# Altium footprint library 开关.PcbLib: 16 footprints
Each footprint in its own frame and in the unit in brackets; x right, y up, seen from the top. Pads: shape width x height; smd on the part's side, far side on the other; paste and mask are expansions set on the pad; w line width, h text height; cw(c..) or ccw(c..) is an arc to the next point about the centre after c.
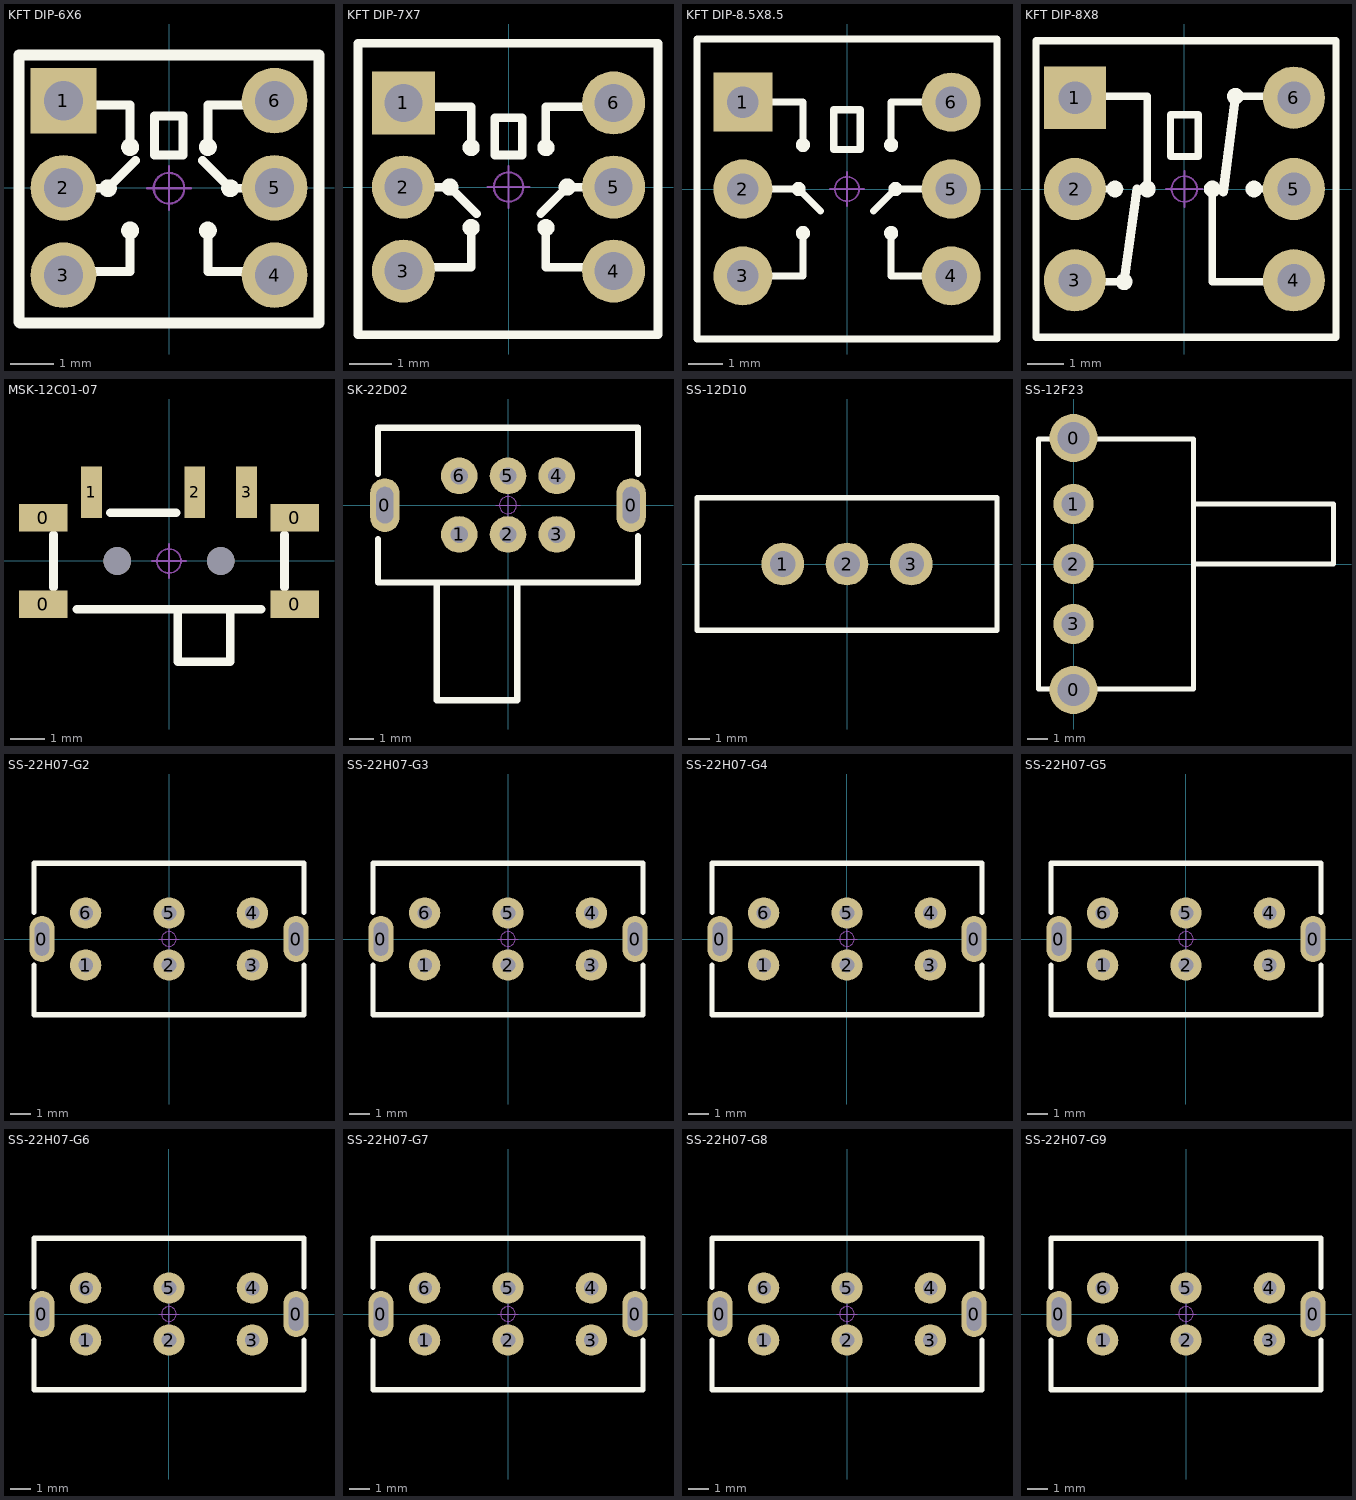
[diagram p0: the footprints below, top view; thin cyan lines are the x and y axes]

## KFT DIP-6X6 [mm] "6*6mm开关"
pads (6):
  rect 1.5x1.5 hole 0.9: 1(-2.413,1.994)
  round 1.5 hole 0.9: 2(-2.413,0) 3(-2.413,-1.994) 4(2.413,-1.994) 5(2.413,0) 6(2.413,1.994)
Top Overlay:
  circle w0.254: c-1.397,-0.007 r0.076
  circle w0.254: c1.397,-0.007 r0.076
  circle w0.254: c-0.889,-0.973 r0.076
  circle w0.254: c0.889,-0.973 r0.076
  circle w0.254: c-0.889,0.932 r0.076
  circle w0.254: c0.889,0.932 r0.076
  lines w0.203: -2.54,-1.912 -1.524,-1.912 -0.889,-1.912 -0.889,-0.896 ; -2.54,-0.007 -1.397,-0.007 -0.762,0.628 ; -2.54,1.898 -0.889,1.898 -0.889,1.009 ; 0.762,0.628 1.397,-0.007 2.54,-0.007 ; 0.889,-0.896 0.889,-1.912 2.54,-1.912 ; 0.889,1.009 0.889,1.898 2.54,1.898 ; -0.33,0.755 -0.33,1.644 0.322,1.644 0.322,0.755 -0.33,0.755
  lines w0.254: -3.429,-3.061 -3.429,3.035 3.429,3.035 3.429,-3.086 -3.404,-3.086 -3.429,-3.061
Mechanical 15:
  circle w0.05: c0,-0.007 r0.35
  lines w0.05: -0.5,-0.007 0.5,-0.007 ; 0,-0.507 0,0.493
3D body "6开关.stp": height 10.29, standoff -3.51, extent -3,-3.007 3,2.993

## KFT DIP-7X7 [mm] "7*7mm开关"
pads (6):
  rect 1.5x1.5 hole 0.9: 1(-2.5,2)
  round 1.5 hole 0.9: 2(-2.5,0) 3(-2.5,-2) 4(2.5,-2) 5(2.5,0) 6(2.5,2)
Top Overlay:
  circle w0.254: c-1.397,0 r0.076
  circle w0.254: c1.397,0 r0.076
  circle w0.254: c-0.889,-0.965 r0.076
  circle w0.254: c0.889,-0.965 r0.076
  circle w0.254: c-0.889,0.94 r0.076
  circle w0.254: c0.889,0.94 r0.076
  lines w0.203: -2.54,-1.905 -1.524,-1.905 -0.889,-1.905 -0.889,-0.889 ; -2.54,0 -1.397,0 -0.762,-0.635 ; -2.54,1.905 -0.889,1.905 -0.889,1.016 ; 0.762,-0.635 1.397,0 2.54,0 ; 0.889,-0.889 0.889,-1.905 2.54,-1.905 ; 0.889,1.016 0.889,1.905 2.54,1.905 ; -3.581,-3.514 2.54,-3.514 3.556,-3.514 3.556,3.42 -3.581,3.42 -3.581,-3.514 ; -0.33,0.762 -0.33,1.651 0.321,1.651 0.321,0.762 -0.33,0.762
Mechanical 15:
  circle w0.05: c0,0 r0.35
  lines w0.05: -0.5,0 0.5,0 ; 0,-0.5 0,0.5
3D body "SLSW 7x7.STEP": height 11.2, standoff -3.2, extent -3.5,-3.5 3.5,3.5

## KFT DIP-8.5X8.5 [mm] "8.5*8.5mm开关"
pads (6):
  rect 1.7x1.7 hole 0.9: 1(-3,2.5)
  round 1.7 hole 0.9: 2(-3,0) 3(-3,-2.5) 4(3,-2.5) 5(3,0) 6(3,2.5)
Top Overlay:
  circle w0.254: c1.27,1.27 r0.076
  circle w0.254: c-1.27,1.27 r0.076
  circle w0.254: c1.27,-1.27 r0.076
  circle w0.254: c-1.27,-1.27 r0.076
  circle w0.254: c1.397,0 r0.076
  circle w0.254: c-1.397,0 r0.076
  lines w0.2: -4.318,-4.318 -4.318,4.318 4.318,4.318 4.318,-4.318 -4.318,-4.318
  lines w0.203: -3,-2.5 -1.27,-2.5 -1.27,-1.27 ; -3,0 -1.397,0 -0.762,-0.635 ; -3,2.5 -1.27,2.5 -1.27,1.27 ; 0.762,-0.635 1.397,0 3,0 ; 1.27,-1.27 1.27,-2.5 3,-2.5 ; 1.27,1.27 1.27,2.5 3,2.5 ; -0.381,1.139 0.381,1.139 0.381,2.282 -0.381,2.282 -0.381,1.139
Mechanical 15:
  circle w0.05: c0,0 r0.35
  lines w0.05: -0.5,0 0.5,0 ; 0,-0.5 0,0.5
3D body "8.5开关.stp": height 13.8, standoff -3, extent -4.25,-4.25 4.25,4.25

## KFT DIP-8X8 [mm] "8*8mm开关"
pads (6):
  rect 1.7x1.7 hole 0.9: 1(-3,2.5)
  round 1.7 hole 0.9: 2(-3,0) 3(-3,-2.5) 4(3,-2.5) 5(3,0) 6(3,2.5)
Top Overlay:
  circle w0.254: c-1.016,0 r0.102
  circle w0.254: c0.762,0 r0.102
  circle w0.254: c-1.651,-2.54 r0.102
  circle w0.254: c-1.905,0 r0.102
  circle w0.254: c1.905,0 r0.102
  circle w0.254: c1.397,2.54 r0.102
  lines w0.2: -4.064,-4.064 4.153,-4.064 4.153,4.064 -4.064,4.064 -4.064,-4.064
  lines w0.203: -3.048,-2.54 -1.651,-2.54 ; -3.048,0 -1.771,0 ; -3.048,2.54 -1.016,2.54 -1.016,0 ; 0.762,0 0.762,-2.54 2.794,-2.54 ; 1.397,2.54 3.048,2.54 ; 1.88,0 2.794,0 ; -0.381,0.889 0.381,0.889 0.381,2.032 -0.381,2.032 -0.381,0.889
  lines w0.254: -1.651,-2.54 -1.295,0 ; 1.067,-0.076 1.397,2.54
Mechanical 15:
  circle w0.05: c0,0 r0.35
  lines w0.05: -0.5,0 0.5,0 ; 0,-0.5 0,0.5
3D body "SLSW 8x8.STEP": height 13.1, standoff -3.2, extent -3.949,-4.051 4.051,3.949

## MSK-12C01-07 [mm] "6.7*2.8*1.5mm(长宽高）"
pads (9):
  rect 1.4x0.8 smd: 0(-3.65,-1.25) 0(-3.65,1.25) 0(3.65,-1.25) 0(3.65,1.25)
  rect 0.6x1.5 smd: 1(-2.25,1.996) 2(0.75,1.996) 3(2.25,1.996)
  round 0.8 hole 0.8: " "(-1.5,0) " "(1.5,0)
Top Overlay:
  lines w0.254: -3.35,-0.762 -3.35,0.762 ; -2.667,-1.397 2.667,-1.397 ; -1.699,1.397 0.206,1.397 ; 0.254,-1.4 0.254,-2.921 1.778,-2.921 1.778,-1.4 ; 3.35,-0.762 3.35,0.762
Mechanical 15:
  circle w0.05: c0,0 r0.35
  lines w0.05: -0.5,0 0.5,0 ; 0,-0.5 0,0.5
3D body "MSK-12C01-07.STEP": height 1.5, standoff -0.5, extent -3.92,-2.9 3.92,2.4

## SK-22D02 [mm] "10.4x6.1x4.2mm(长宽高)，脚距：2mm"
pads (8):
  oval 1.2x2.2 hole 0.7 slot 1.5 at 90 deg: 0(-5.05,0) 0(5.05,0)
  round 1.5 hole 0.7: 1(-2,-1.2) 2(0,-1.2) 3(2,-1.2) 4(2,1.2) 5(0,1.2) 6(-2,1.2)
Top Overlay:
  lines w0.25: -5.334,-1.397 -5.334,-3.175 5.334,-3.175 5.334,-1.27 ; -5.334,1.27 -5.334,3.175 5.334,3.175 5.334,1.27 ; -2.921,-3.175 -2.921,-8.001 0.381,-8.001 0.381,-3.175
Mechanical 15:
  circle w0.05: c0,0 r0.35
  lines w0.05: -0.5,0 0.5,0 ; 0,-0.5 0,0.5
3D body "SK-22D02.STEP": height 5.59, standoff -2.61, extent -5.266,-7.963 5.254,3.047

## SS-12D10 [mm] "脚距3mm"
pads (3):
  round 2 hole 1.2: 1(-3,0) 2(0,0) 3(3,0)
Top Overlay:
  lines w0.254: -7,-3.1 7,-3.1 7,3.1 -7,3.1 -7,-3.1
3D body "SW-SLB12814.STEP": height 9.65, standoff -2.6, extent -7,-3.1 7,3.1

## SS-12F23 [mm] "脚距3mm"
pads (5):
  round 2.4 hole 1.6: 0(0,-6.3) 0(0,6.3)
  round 2 hole 1.2: 1(0,3) 2(0,0) 3(0,-3)
Top Overlay:
  lines w0.254: 6,0 13,0 13,3 6,3 ; -1.75,-6.25 0,-6.25 6,-6.25 6,6.25 0,6.25 -1.5,6.25 -1.75,6.25 -1.75,-6.25
3D body "User Library-SLIDE SWITCH SS12F23.STEP": height 5.75, standoff -3.35, extent -0.608,-6.523 12.292,6.477

## SS-22H07-G2 [mm] "柄长2mm，12.7x7x4.7mm(长宽高)，脚距：4mm"
pads (8):
  oval 1.2x2.2 hole 0.7 slot 1.6 at 90 deg: 0(-6.1,0) 0(6.1,0)
  round 1.5 hole 0.7: 1(-4,-1.25) 2(0,-1.25) 3(4,-1.25) 4(4,1.25) 5(0,1.25) 6(-4,1.25)
Top Overlay:
  lines w0.25: -6.477,-1.25 -6.477,-3.632 6.477,-3.632 6.477,-1.25 ; -6.477,1.27 -6.477,3.632 6.477,3.632 6.477,1.27
Mechanical 15:
  circle w0.05: c0,0 r0.35
  lines w0.05: -0.5,0 0.5,0 ; 0,-0.5 0,0.5
3D body "SS-22H07-G2.STEP": height 6.7, standoff -3.3, extent -6.351,-3.501 6.351,3.501

## SS-22H07-G3 [mm] "柄长3mm，12.7x7x4.7mm(长宽高)，脚距：4mm"
pads (8):
  oval 1.2x2.2 hole 0.7 slot 1.6 at 90 deg: 0(-6.1,0) 0(6.1,0)
  round 1.5 hole 0.7: 1(-4,-1.25) 2(0,-1.25) 3(4,-1.25) 4(4,1.25) 5(0,1.25) 6(-4,1.25)
Top Overlay:
  lines w0.25: -6.477,-1.25 -6.477,-3.632 6.477,-3.632 6.477,-1.25 ; -6.477,1.27 -6.477,3.632 6.477,3.632 6.477,1.27
Mechanical 15:
  circle w0.05: c0,0 r0.35
  lines w0.05: -0.5,0 0.5,0 ; 0,-0.5 0,0.5
3D body "SS-22H07-G3.STEP": height 7.7, standoff -3.3, extent -6.351,-3.501 6.351,3.501

## SS-22H07-G4 [mm] "柄长4mm，12.7x7x4.7mm(长宽高)，脚距：4mm"
pads (8):
  oval 1.2x2.2 hole 0.7 slot 1.6 at 90 deg: 0(-6.1,0) 0(6.1,0)
  round 1.5 hole 0.7: 1(-4,-1.25) 2(0,-1.25) 3(4,-1.25) 4(4,1.25) 5(0,1.25) 6(-4,1.25)
Top Overlay:
  lines w0.25: -6.477,-1.25 -6.477,-3.632 6.477,-3.632 6.477,-1.25 ; -6.477,1.27 -6.477,3.632 6.477,3.632 6.477,1.27
Mechanical 15:
  circle w0.05: c0,0 r0.35
  lines w0.05: -0.5,0 0.5,0 ; 0,-0.5 0,0.5
3D body "SS-22H07-G4.STEP": height 8.7, standoff -3.3, extent -6.351,-3.501 6.351,3.501

## SS-22H07-G5 [mm] "柄长5mm，12.7x7x4.7mm(长宽高)，脚距：4mm"
pads (8):
  oval 1.2x2.2 hole 0.7 slot 1.6 at 90 deg: 0(-6.1,0) 0(6.1,0)
  round 1.5 hole 0.7: 1(-4,-1.25) 2(0,-1.25) 3(4,-1.25) 4(4,1.25) 5(0,1.25) 6(-4,1.25)
Top Overlay:
  lines w0.25: -6.477,-1.25 -6.477,-3.632 6.477,-3.632 6.477,-1.25 ; -6.477,1.27 -6.477,3.632 6.477,3.632 6.477,1.27
Mechanical 15:
  circle w0.05: c0,0 r0.35
  lines w0.05: -0.5,0 0.5,0 ; 0,-0.5 0,0.5
3D body "SS-22H07-G5.STEP": height 9.7, standoff -3.3, extent -6.351,-3.501 6.351,3.501

## SS-22H07-G6 [mm] "柄长6mm，12.7x7x4.7mm(长宽高)，脚距：4mm"
pads (8):
  oval 1.2x2.2 hole 0.7 slot 1.6 at 90 deg: 0(-6.1,0) 0(6.1,0)
  round 1.5 hole 0.7: 1(-4,-1.25) 2(0,-1.25) 3(4,-1.25) 4(4,1.25) 5(0,1.25) 6(-4,1.25)
Top Overlay:
  lines w0.25: -6.477,-1.25 -6.477,-3.632 6.477,-3.632 6.477,-1.25 ; -6.477,1.27 -6.477,3.632 6.477,3.632 6.477,1.27
Mechanical 15:
  circle w0.05: c0,0 r0.35
  lines w0.05: -0.5,0 0.5,0 ; 0,-0.5 0,0.5
3D body "SS-22H07-G6.STEP": height 10.7, standoff -3.3, extent -6.351,-3.501 6.351,3.501

## SS-22H07-G7 [mm] "柄长7mm，12.7x7x4.7mm(长宽高)，脚距：4mm"
pads (8):
  oval 1.2x2.2 hole 0.7 slot 1.6 at 90 deg: 0(-6.1,0) 0(6.1,0)
  round 1.5 hole 0.7: 1(-4,-1.25) 2(0,-1.25) 3(4,-1.25) 4(4,1.25) 5(0,1.25) 6(-4,1.25)
Top Overlay:
  lines w0.25: -6.477,-1.25 -6.477,-3.632 6.477,-3.632 6.477,-1.25 ; -6.477,1.27 -6.477,3.632 6.477,3.632 6.477,1.27
Mechanical 15:
  circle w0.05: c0,0 r0.35
  lines w0.05: -0.5,0 0.5,0 ; 0,-0.5 0,0.5
3D body "SS-22H07-G7.STEP": height 11.7, standoff -3.3, extent -6.351,-3.501 6.351,3.501

## SS-22H07-G8 [mm] "柄长8mm，12.7x7x4.7mm(长宽高)，脚距：4mm"
pads (8):
  oval 1.2x2.2 hole 0.7 slot 1.6 at 90 deg: 0(-6.1,0) 0(6.1,0)
  round 1.5 hole 0.7: 1(-4,-1.25) 2(0,-1.25) 3(4,-1.25) 4(4,1.25) 5(0,1.25) 6(-4,1.25)
Top Overlay:
  lines w0.25: -6.477,-1.25 -6.477,-3.632 6.477,-3.632 6.477,-1.25 ; -6.477,1.27 -6.477,3.632 6.477,3.632 6.477,1.27
Mechanical 15:
  circle w0.05: c0,0 r0.35
  lines w0.05: -0.5,0 0.5,0 ; 0,-0.5 0,0.5
3D body "SS-22H07-G8.STEP": height 12.7, standoff -3.3, extent -6.351,-3.501 6.351,3.501

## SS-22H07-G9 [mm] "柄长9mm，12.7x7x4.7mm(长宽高)，脚距：4mm"
pads (8):
  oval 1.2x2.2 hole 0.7 slot 1.6 at 90 deg: 0(-6.1,0) 0(6.1,0)
  round 1.5 hole 0.7: 1(-4,-1.25) 2(0,-1.25) 3(4,-1.25) 4(4,1.25) 5(0,1.25) 6(-4,1.25)
Top Overlay:
  lines w0.25: -6.477,-1.25 -6.477,-3.632 6.477,-3.632 6.477,-1.25 ; -6.477,1.27 -6.477,3.632 6.477,3.632 6.477,1.27
Mechanical 15:
  circle w0.05: c0,0 r0.35
  lines w0.05: -0.5,0 0.5,0 ; 0,-0.5 0,0.5
3D body "SS-22H07-G9.STEP": height 13.7, standoff -3.3, extent -6.351,-3.501 6.351,3.501